# Altium schematic symbol library lib_protel_HC.SCHLIB: 494 symbols (part 4 of 4)
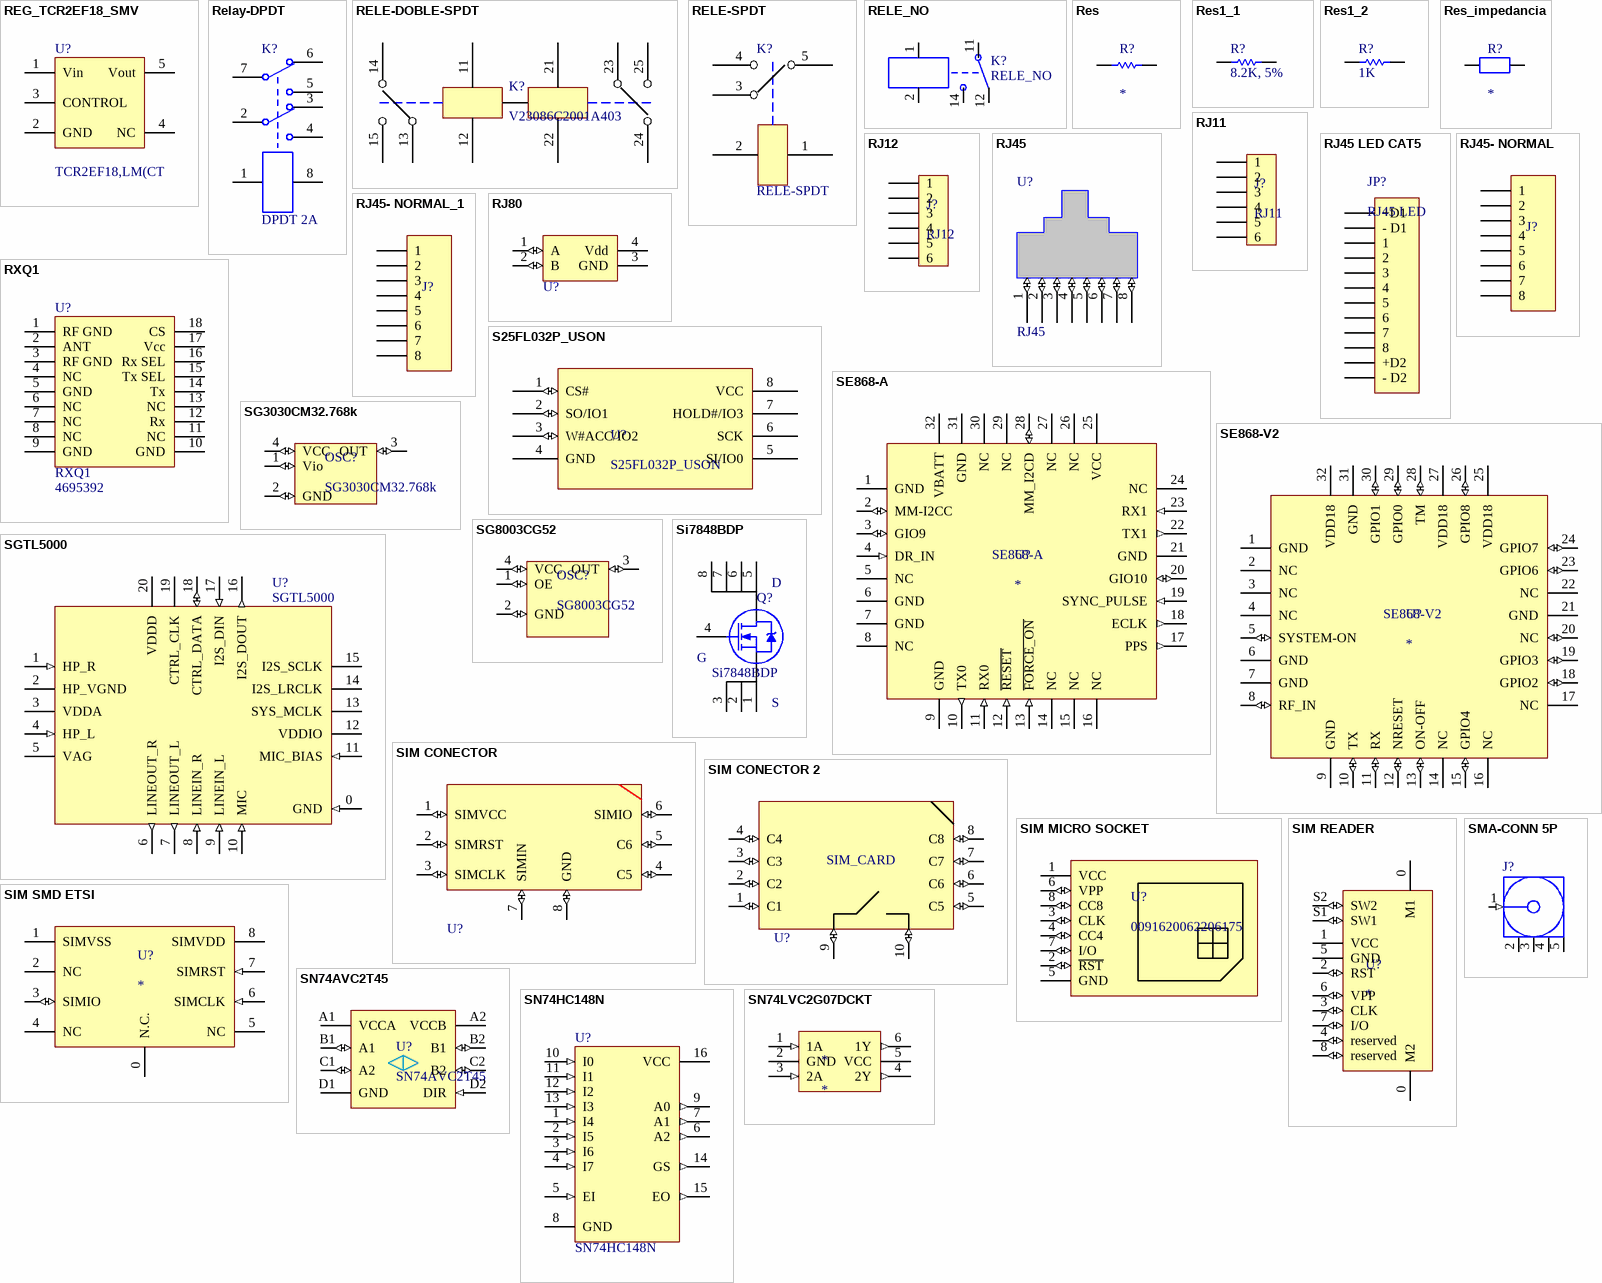
[diagram p24: symbols REG_TCR2EF18_SMV to SN74LVC2G07DCKT]

## SMA-CONN 5P
designator J?  (value not drawn)
SMA antenna connector 5 pin; ComponentLink1Description: *; ComponentLink1URL: *; CODIGO DIGIKEY: *; CODIGO FARNELL: *; CODIGO MOUSER: *; FABRICANTE: *; REF_FABRICANTE: *; DISTRIBUIDOR1: *; DISTRIBUIDOR2: *; ENCAPSULADO: *
pins: 1 Signal (in) "Signal Pin", 2 (power), 3 (power), 4 (power), 5 (power)

## SN74AVC2T45
designator U?
CODIGO FARNELL: *; CODIGO DIGIKEY: 296-17858-1-ND
pins: A1 VCCA, A2 VCCB, B1 A1 (io), B2 B1 (io), C1 A2 (io), C2 B2 (io), D1 GND, D2 DIR (in)

## SN74HC148N
designator U?
8-Line to 3-Line Priority Encoder; Manufacturer: TI; Manufacturer p/n: SN74HC148N; Distributor: Digikey; Case: DIP; 16 Leads; Row Spacing 7.62 mm; Pitch 2.54 mm; ComponentLink2URL: http://www-s.ti.com/sc/ds/sn74hc148.pdf; Distributor p/n: 296-8233-5-ND
footprint N016D (DIP; 16 Leads; Row Spacing 7.62 mm; Pitch 2.54 mm)
3D model N016 (DIP; 16 Leads; Row Spacing 7.62 mm; Pitch 2.54 mm)
pins: 1 I4 (in), 2 I5 (in), 3 I6 (in), 4 I7 (in), 5 EI (in), 6 A2 (out), 7 A1 (out), 8 GND (power), 9 A0 (out), 10 I0 (in), 11 I1 (in), 12 I2 (in), 13 I3 (in), 14 GS (out), 15 EO (out), 16 VCC (power)

## SN74LVC2G07DCKT
designator *
CODIGO FARNELL: *; PRECIO FARNELL: *
pins: 1 1A (in), 2 GND, 3 2A (in), 4 2Y (out), 5 VCC, 6 1Y (out)

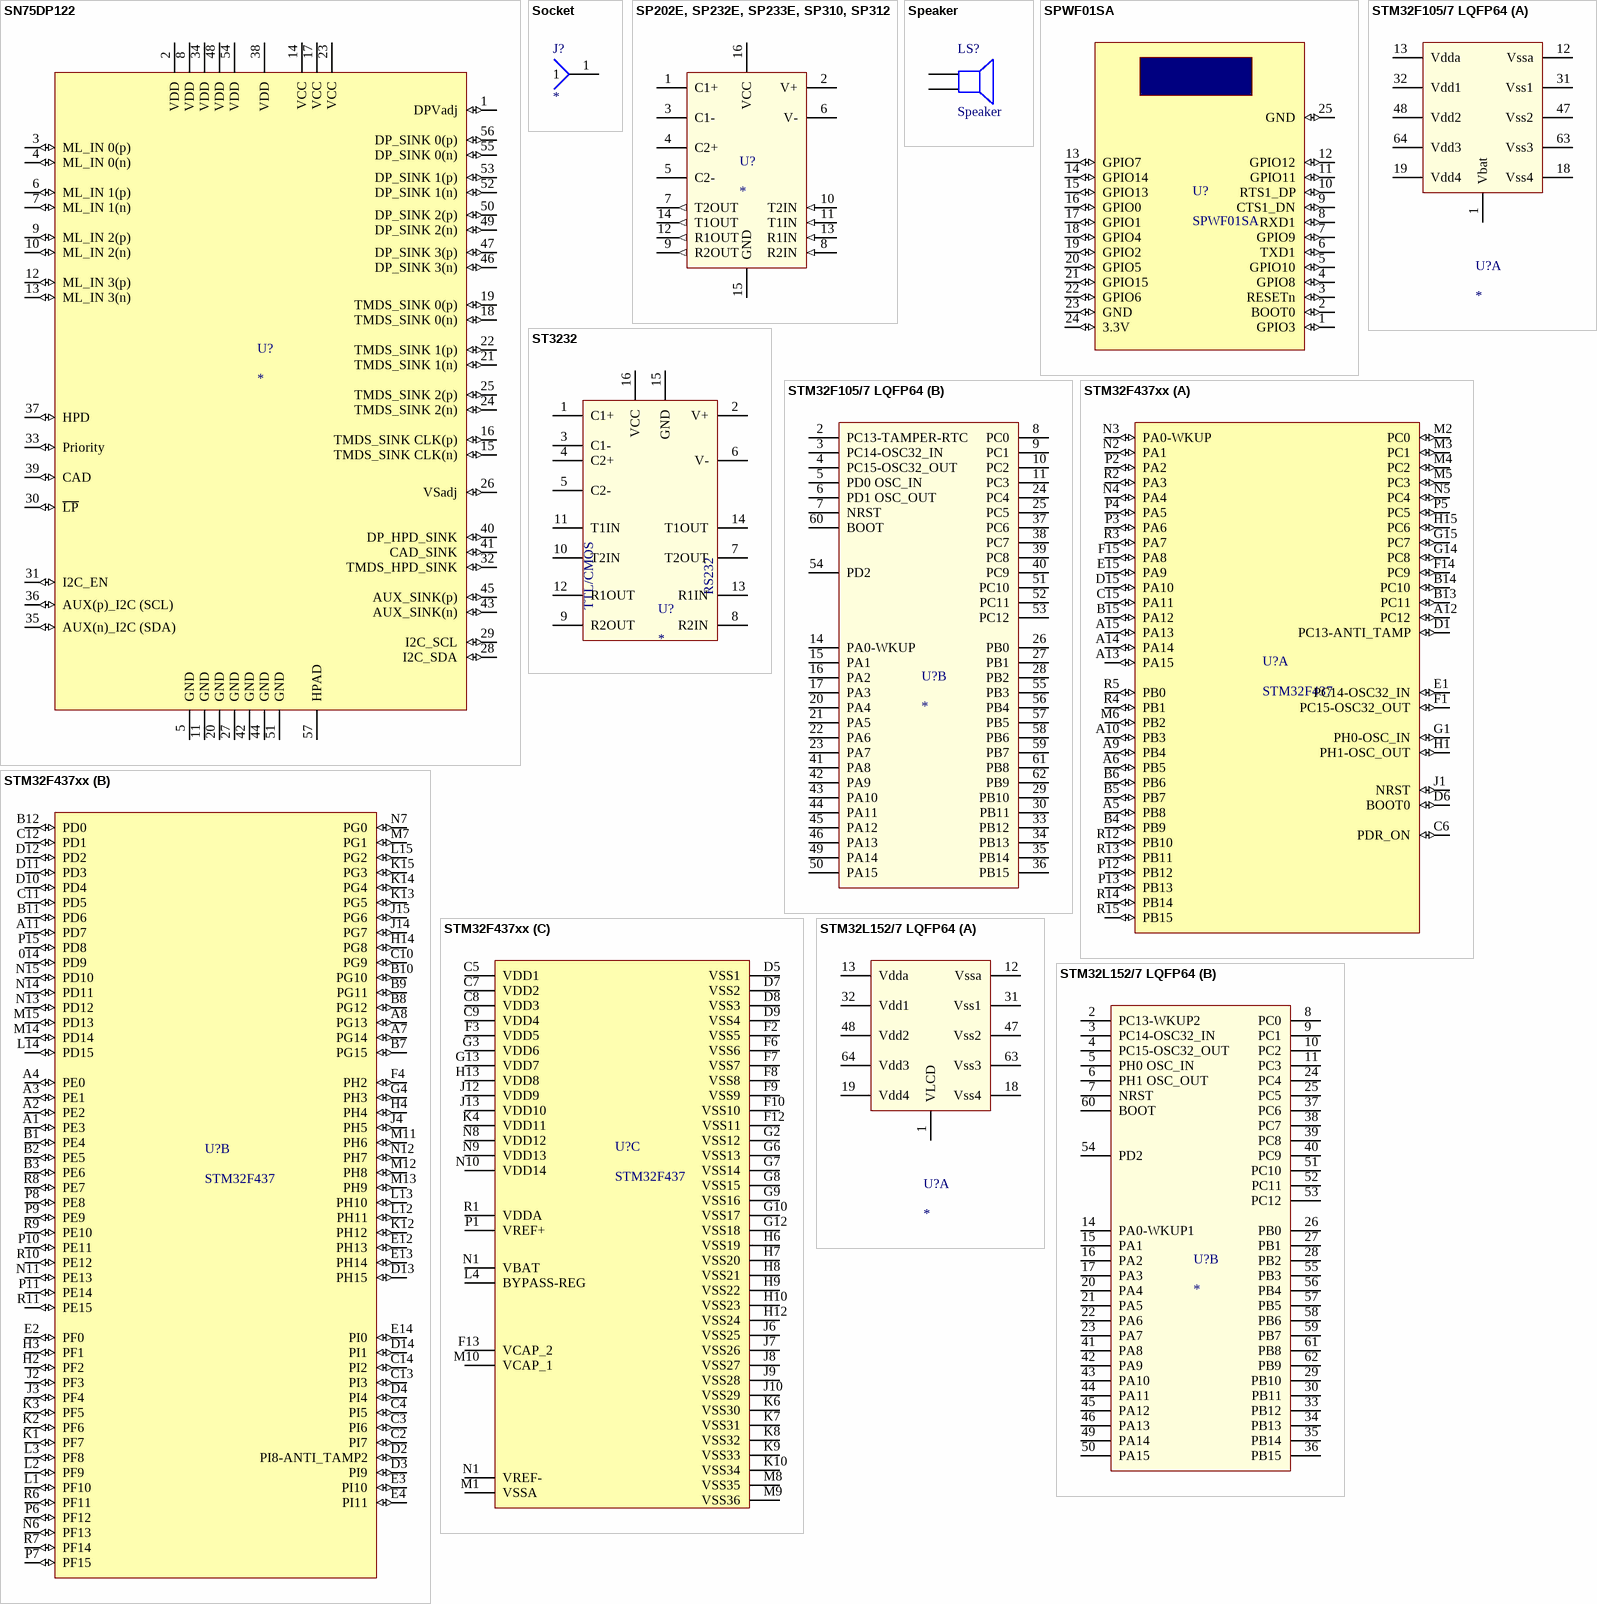
[diagram p17: symbols SN75DP122 to STM32L152/7 LQFP64]

## SN75DP122
designator U?
CODIGO DIGIKEY: *; CODIGO FARNELL: *; CODIGO MOUSER: *; CODIGO PRODUCTO: *; DISTRIBUIDOR 1: *; DISTRIBUIDOR 2: *
pins: 1 DPVadj (io), 2 VDD (power), 3 ML_IN 0(p) (io), 4 ML_IN 0(n) (io), 5 GND (power), 6 ML_IN 1(p) (io), 7 ML_IN 1(n) (io), 8 VDD (power), 9 ML_IN 2(p) (io), 10 ML_IN 2(n) (io), 11 GND (power), 12 ML_IN 3(p) (io), 13 ML_IN 3(n) (io), 14 VCC (power), 15 TMDS_SINK CLK(n) (io), 16 TMDS_SINK CLK(p) (io), 17 VCC (power), 18 TMDS_SINK 0(n) (io), 19 TMDS_SINK 0(p) (io), 20 GND (power), 21 TMDS_SINK 1(n) (io), 22 TMDS_SINK 1(p) (io), 23 VCC (power), 24 TMDS_SINK 2(n) (io), 25 TMDS_SINK 2(p) (io), 26 VSadj (io), 27 GND (power), 28 I2C_SDA (io), 29 I2C_SCL (io), 30 ~{LP} (io), 31 I2C_EN (io), 32 TMDS_HPD_SINK (io), 33 Priority (io), 34 VDD (power), 35 AUX(n)_I2C (SDA) (io), 36 AUX(p)_I2C (SCL) (io), 37 HPD (io), 38 VDD (power), 39 CAD (io), 40 DP_HPD_SINK (io), 41 CAD_SINK (io), 42 GND (power), 43 AUX_SINK(n) (io), 44 GND (power), 45 AUX_SINK(p) (io), 46 DP_SINK 3(n) (io), 47 DP_SINK 3(p) (io), 48 VDD (power), 49 DP_SINK 2(n) (io), 50 DP_SINK 2(p) (io), 51 GND (power), 52 DP_SINK 1(n) (io), 53 DP_SINK 1(p) (io), 54 VDD (power), 55 DP_SINK 0(n) (io), 56 DP_SINK 0(p) (io), 57 HPAD (power)

## Socket
designator J?
Socket; CODIGO DIGIKEY: *; CODIGO FARNELL: *; CODIGO MOUSER: *; FABRICANTE: *; REF_FABRICANTE: *; DISTTRIBUIDOR 1: *; DISTRIBUIDOR 2: *; ComponentLink1URL: *; ComponentLink1Description: *
pins: 1 (power)

## SP202E, SP232E, SP233E, SP310, SP312
designator U?
RS-232 Line Driver/Receiver; CODIGO FARNELL: *; CODIGO MOUSER: *; CODIGO DIGIKEY: *; FABRICANTE: *; REF_FABRICANTE: *; ENCAPSULADO: *; ComponentLink1Description: *; ComponentLink1URL: *; DISTRIBUIDOR 1: *; DISTRIBUIDOR 2: *
pins: 1 C1+ (power), 2 V+ (power), 3 C1- (power), 4 C2+ (power), 5 C2- (power), 6 V- (power), 7 T2OUT (out), 8 R2IN (in), 9 R2OUT (out), 10 T2IN (in), 11 T1IN (in), 12 R1OUT (out), 13 R1IN (in), 14 T1OUT (out), 15 GND (power), 16 VCC (power)

## Speaker
designator LS?
Loudspeaker; Published: 24-Mar-1999; LatestRevisionDate: 17-Jul-2002; LatestRevisionNote: Re-released for DXP Platform.; PackageReference: PIN2; Publisher: Altium Limited; CODIGO DIGIKEY: *; CODIGO FARNELL: *; CODIGO MOUSER: *; CODIGO FABRICANTE: *; POTENCIA: *; FABRICANTE: *; DISTRIBUIDOR 1: *; DISTRIBUIDOR 2: *
pins: 1, 2

## SPWF01SA
designator U?
CODIGO DIGIKEY: *; CODIGO FARNELL: *; DISTRIBUIDOR: *; PRECIO DIGIKEY: *; CODIGO MOUSER: *; FABRICANTE: *
pins: 1 GPIO3 (io), 2 BOOT0 (io), 3 RESETn (io), 4 GPIO8 (io), 5 GPIO10 (io), 6 TXD1 (io), 7 GPIO9 (io), 8 RXD1 (io), 9 CTS1_DN (io), 10 RTS1_DP (io), 11 GPIO11 (io), 12 GPIO12 (io), 13 GPIO7 (io), 14 GPIO14 (io), 15 GPIO13 (io), 16 GPIO0 (io), 17 GPIO1 (io), 18 GPIO4 (io), 19 GPIO2 (io), 20 GPIO5 (io), 21 GPIO15 (io), 22 GPIO6 (io), 23 GND (io), 24 3.3V (io), 25 GND (io)

## ST3232
designator U?
CODIGO DIGIKEY: *; CODIGO FARNELL: *; CODIGO MOUSER: *; REF_FABRICANTE: *; FABRICANTE: *; DISTRIBUIDOR1: *; DISTRIBUIDOR2: *
pins: 1 C1+, 2 V+, 3 C1-, 4 C2+, 5 C2-, 6 V-, 7 T2OUT, 8 R2IN, 9 R2OUT, 10 T2IN, 11 T1IN, 12 R1OUT, 13 R1IN, 14 T1OUT, 15 GND, 16 VCC
text: RS232; TTL/CMOS

## STM32F105/7 LQFP64
designator U?
CODIGO DIGIKEY: *; CODIGO FARNELL: *; CODIGO MOUSER: *; DISTRIBUIDOR1: *; DISTRIBUIDOR2: *; REF_FABRICANTE: *; FABRICANTE: *
footprint LQFP-64
part A pins: 1 Vbat, 12 Vssa, 13 Vdda, 18 Vss4, 19 Vdd4, 31 Vss1, 32 Vdd1, 47 Vss2, 48 Vdd2, 63 Vss3, 64 Vdd3
part B pins: 2 PC13-TAMPER-RTC, 3 PC14-OSC32_IN, 4 PC15-OSC32_OUT, 5 PD0 OSC_IN, 6 PD1 OSC_OUT, 7 NRST, 8 PC0, 9 PC1, 10 PC2, 11 PC3, 14 PA0-WKUP, 15 PA1, 16 PA2, 17 PA3, 20 PA4, 21 PA5, 22 PA6, 23 PA7, 24 PC4, 25 PC5, 26 PB0, 27 PB1, 28 PB2, 29 PB10, 30 PB11, 33 PB12, 34 PB13, 35 PB14, 36 PB15, 37 PC6, 38 PC7, 39 PC8, 40 PC9, 41 PA8, 42 PA9, 43 PA10, 44 PA11, 45 PA12, 46 PA13, 49 PA14, 50 PA15, 51 PC10, 52 PC11, 53 PC12, 54 PD2, 55 PB3, 56 PB4, 57 PB5, 58 PB6, 59 PB7, 60 BOOT, 61 PB8, 62 PB9

## STM32F437xx
designator U?, comment STM32F437
MICROCONTROLADOR ARM; CODIGO DIGIKEY: *; DISTRIBUIDOR: VENCO ELECTRONICA
part A pins: A5 PB8 (io), A6 PB5 (io), A9 PB4 (io), A10 PB3 (io), A12 PC12 (io), A13 PA15 (io), A14 PA14 (io), A15 PA13 (io), B4 PB9 (io), B5 PB7 (io), B6 PB6 (io), B13 PC11 (io), B14 PC10 (io), B15 PA12 (io), C6 PDR_ON (io), C15 PA11 (io), D1 PC13-ANTI_TAMP (io), D6 BOOT0 (io), D15 PA10 (io), E1 PC14-OSC32_IN (io), E15 PA9 (io), F1 PC15-OSC32_OUT (io), F14 PC9 (io), F15 PA8 (io), G1 PH0-OSC_IN (io), G14 PC8 (io), G15 PC7 (io), H1 PH1-OSC_OUT (io), H15 PC6 (io), J1 NRST (io), M2 PC0 (io), M3 PC1 (io), M4 PC2 (io), M5 PC3 (io), M6 PB2 (io), N2 PA1 (io), N3 PA0-WKUP (io), N4 PA4 (io), N5 PC4 (io), P2 PA2 (io), P3 PA6 (io), P4 PA5 (io), P5 PC5 (io), P12 PB12 (io), P13 PB13 (io), R2 PA3 (io), R3 PA7 (io), R4 PB1 (io), R5 PB0 (io), R12 PB10 (io), R13 PB11 (io), R14 PB14 (io), R15 PB15 (io)
part B pins: 014 PD9 (io), A1 PE3 (io), A2 PE2 (io), A3 PE1 (io), A4 PE0 (io), A7 PG14 (io), A8 PG13 (io), A11 PD7 (io), B1 PE4 (io), B2 PE5 (io), B3 PE6 (io), B7 PG15 (io), B8 PG12 (io), B9 PG11 (io), B10 PG10 (io), B11 PD6 (io), B12 PD0 (io), C2 PI7 (io), C3 PI6 (io), C4 PI5 (io), C10 PG9 (io), C11 PD5 (io), C12 PD1 (io), C13 PI3 (io), C14 PI2 (io), D2 PI8-ANTI_TAMP2 (io), D3 PI9 (io), D4 PI4 (io), D10 PD4 (io), D11 PD3 (io), D12 PD2 (io), D13 PH15 (io), D14 PI1 (io), E2 PF0 (io), E3 PI10 (io), E4 PI11 (io), E12 PH13 (io), E13 PH14 (io), E14 PI0 (io), F4 PH2 (io), G4 PH3 (io), H2 PF2 (io), H3 PF1 (io), H4 PH4 (io), H14 PG8 (io), J2 PF3 (io), J3 PF4 (io), J4 PH5 (io), J14 PG7 (io), J15 PG6 (io), K1 PF7 (io), K2 PF6 (io), K3 PF5 (io), K12 PH12 (io), K13 PG5 (io), K14 PG4 (io), K15 PG3 (io), L1 PF10 (io), L2 PF9 (io), L3 PF8 (io), L12 PH11 (io), L13 PH10 (io), L14 PD15 (io), L15 PG2 (io), M7 PG1 (io), M11 PH6 (io), M12 PH8 (io), M13 PH9 (io), M14 PD14 (io), M15 PD13 (io), N6 PF13 (io), N7 PG0 (io), N11 PE13 (io), N12 PH7 (io), N13 PD12 (io), N14 PD11 (io), N15 PD10 (io), P6 PF12 (io), P7 PF15 (io), P8 PE8 (io), P9 PE9 (io), P10 PE11 (io), P11 PE14 (io), P15 PD8 (io), R6 PF11 (io), R7 PF14 (io), R8 PE7 (io), R9 PE10 (io), R10 PE12 (io), R11 PE15 (io)
part C pins: C5 VDD1 (power), C7 VDD2 (power), C8 VDD3 (power), C9 VDD4 (power), D5 VSS1 (power), D7 VSS2 (power), D8 VSS3 (power), D9 VSS4 (power), F2 VSS5 (power), F3 VDD5 (power), F6 VSS6 (power), F7 VSS7 (power), F8 VSS8 (power), F9 VSS9 (power), F10 VSS10 (power), F12 VSS11 (power), F13 VCAP_2 (power), G2 VSS12 (power), G3 VDD6 (power), G6 VSS13 (power), G7 VSS14 (power), G8 VSS15 (power), G9 VSS16 (power), G10 VSS17 (power), G12 VSS18 (power), G13 VDD7 (power), H6 VSS19 (power), H7 VSS20 (power), H8 VSS21 (power), H9 VSS22 (power), H10 VSS23 (power), H12 VSS24 (power), H13 VDD8 (power), J6 VSS25 (power), J7 VSS26 (power), J8 VSS27 (power), J9 VSS28 (power), J10 VSS29 (power), J12 VDD9 (power), J13 VDD10 (power), K4 VDD11 (power), K6 VSS30 (power), K7 VSS31 (power), K8 VSS32 (power), K9 VSS33 (power), K10 VSS34 (power), L4 BYPASS-REG (power), M1 VSSA (power), M8 VSS35 (power), M9 VSS36 (power), M10 VCAP_1 (power), N1 VBAT (power), N1 VREF- (power), N8 VDD12 (power), N9 VDD13 (power), N10 VDD14 (power), P1 VREF+ (power), R1 VDDA (power)

## STM32L152/7 LQFP64
designator U?
CODIGO DIGIKEY: *; CODIGO FARNELL: *; CODIGO MOUSER: *; DISTRIBUIDOR1: *; DISTRIBUIDOR2: *; REF_FABRICANTE: *; FABRICANTE: *
footprint LQFP-64
part A pins: 1 VLCD, 12 Vssa, 13 Vdda, 18 Vss4, 19 Vdd4, 31 Vss1, 32 Vdd1, 47 Vss2, 48 Vdd2, 63 Vss3, 64 Vdd3
part B pins: 2 PC13-WKUP2, 3 PC14-OSC32_IN, 4 PC15-OSC32_OUT, 5 PH0 OSC_IN, 6 PH1 OSC_OUT, 7 NRST, 8 PC0, 9 PC1, 10 PC2, 11 PC3, 14 PA0-WKUP1, 15 PA1, 16 PA2, 17 PA3, 20 PA4, 21 PA5, 22 PA6, 23 PA7, 24 PC4, 25 PC5, 26 PB0, 27 PB1, 28 PB2, 29 PB10, 30 PB11, 33 PB12, 34 PB13, 35 PB14, 36 PB15, 37 PC6, 38 PC7, 39 PC8, 40 PC9, 41 PA8, 42 PA9, 43 PA10, 44 PA11, 45 PA12, 46 PA13, 49 PA14, 50 PA15, 51 PC10, 52 PC11, 53 PC12, 54 PD2, 55 PB3, 56 PB4, 57 PB5, 58 PB6, 59 PB7, 60 BOOT, 61 PB8, 62 PB9

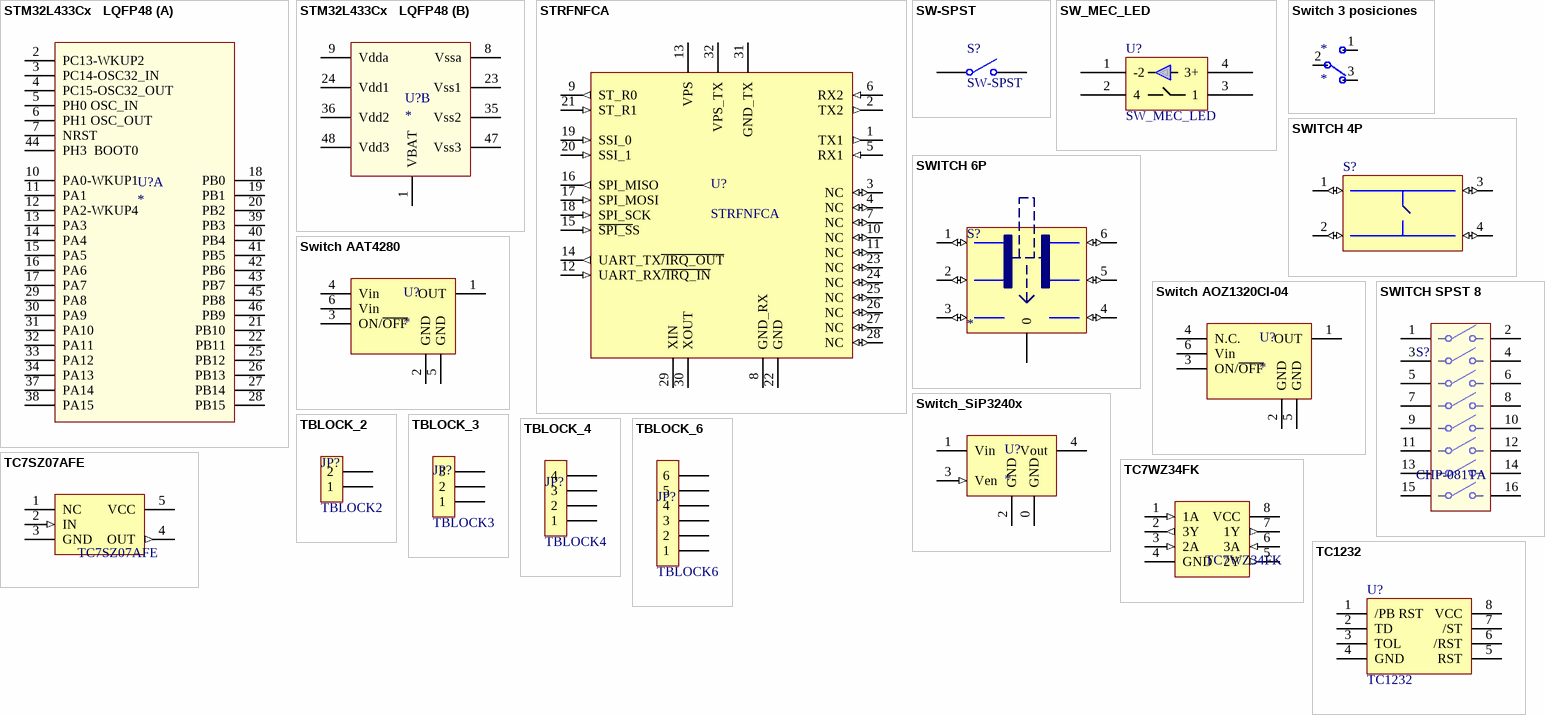
[diagram p18: symbols STM32L433Cx   LQFP48 to TC1232]

## STM32L433Cx   LQFP48
designator U?
Ultra-low-power ARM® Cortex®-M4 32-bit MCU+FPU, 100DMIPS,  up to 256KB Flash, 64KB SRAM
footprint LQFP-48
part A pins: 2 PC13-WKUP2, 3 PC14-OSC32_IN, 4 PC15-OSC32_OUT, 5 PH0 OSC_IN, 6 PH1 OSC_OUT, 7 NRST, 10 PA0-WKUP1, 11 PA1, 12 PA2-WKUP4, 13 PA3, 14 PA4, 15 PA5, 16 PA6, 17 PA7, 18 PB0, 19 PB1, 20 PB2, 21 PB10, 22 PB11, 25 PB12, 26 PB13, 27 PB14, 28 PB15, 29 PA8, 30 PA9, 31 PA10, 32 PA11, 33 PA12, 34 PA13, 37 PA14, 38 PA15, 39 PB3, 40 PB4, 41 PB5, 42 PB6, 43 PB7, 44 PH3  BOOT0, 45 PB8, 46 PB9
part B pins: 1 VBAT, 8 Vssa, 9 Vdda, 23 Vss1, 24 Vdd1, 35 Vss2, 36 Vdd2, 47 Vss3, 48 Vdd3

## STRFNFCA
designator U?
CODIGO DIGIKEY: *; CODIGO FABRICANTE: *
pins: 1 TX1 (out), 2 TX2 (out), 3 NC (io), 4 NC (io), 5 RX1 (in), 6 RX2 (in), 7 NC (io), 8 GND_RX (power), 9 ST_R0 (out), 10 NC (io), 11 NC (io), 12 UART_RX~{/IRQ_IN} (in), 13 VPS (power), 14 UART_TX~{/IRQ_OUT} (out), 15 ~{SPI_S}S (in), 16 SPI_MISO (out), 17 SPI_MOSI (in), 18 SPI_SCK (in), 19 SSI_0 (in), 20 SSI_1 (in), 21 ST_R1 (in), 22 GND (power), 23 NC (io), 24 NC (io), 25 NC (io), 26 NC (io), 27 NC (io), 28 NC (io), 29 XIN (hiz), 30 XOUT (hiz), 31 GND_TX (power), 32 VPS_TX (power)

## SW-SPST
designator S?
Single-Pole, Single-Throw Switch; Manufacturer: Generic Components; Published: 24-Mar-1999; Revision: July-2002: Re-released for DXP Platform.; Publisher: Altium Limited
footprint SPST-2
pins: 1 COMMON, 2 NO

## SW_MEC_LED
designator U?
pins: 1 -2, 2 4, 3 1, 4 3+

## Switch 3 posiciones
designator *
CODIGO FARNELL: *; PRECIO FARNELL: *
pins: 1, 2, 3

## SWITCH 4P
designator S?  (value not drawn)
switch 4P; CODIGO DIGIKEY: *; CODIGO FARNELL: *; CODIGO MOUSER: *; FABRICANTE: *; REF_FABRICANTE: *; DISTRIBUIDOR 1: *; DISTRIBUIDOR 2: *; ComponentLink1URL: *; ComponentLink1Description: *
pins: 1 (io), 2 (io), 3 (io), 4 (io)

## SWITCH 6P
designator S?
Switch 6P; FABRICANTE: *; CODIGO FARNELL: *; CODIGO DIGIKEY: *; CODIGO MOUSER: *; DISTRIBUIDOR 1: *; DISTRIBUIDOR 2: *; REF_FABRICANTE: *; ComponentLink1Description: *; ComponentLink1URL: *
pins: 0 (power), 1 (io), 2 (io), 3 (io), 4 (io), 5 (io), 6 (io)

## Switch AAT4280
designator U?
Switch P-Channel; CODIGO DIGIKEY: *; CODIGO MOUSER: *; CODIGO FARNELL: *; ComponentLink1Description: *; ComponentLink1URL: *; FABRICANTE: *; REF_FABRICANTE: *; DISTRIBUIDOR 1: *; DISTRIBUIDOR 2: *
pins: 1 OUT, 2 GND, 3 ON/~{OFF}, 4 Vin, 5 GND, 6 Vin

## Switch AOZ1320CI-04
designator U?
Switch P-Channel; CODIGO DIGIKEY: *; CODIGO MOUSER: *; CODIGO FARNELL: *; ComponentLink1Description: *; ComponentLink1URL: *; FABRICANTE: *; REF_FABRICANTE: *; DISTRIBUIDOR 1: *; DISTRIBUIDOR 2: *
pins: 1 OUT, 2 GND, 3 ON/~{OFF}, 4 N.C., 5 GND, 6 Vin

## SWITCH SPST 8
designator S?, comment CHP-081TA
Switch piano; FABRICANTE: Copal Electronics Inc.; Posiciones: 8; CODIGO DIGIKEY: 563-1019-1-ND; CODIGO FARNELL: *; CODIGO MOUSER: *; DISTRIBUIDOR 1: *; DISTRIBUIDOR 2: *; REF_FABRICANTE: CHP-081TA; ComponentLink1URL: *; ComponentLink1Description: *
footprint CHP-081TA
pins: 1, 2, 3, 4, 5, 6, 7, 8, 9, 10, 11, 12, 13, 14, 15, 16

## Switch_SiP3240x
designator U?
IC Load switch, 4TDFN; CODIGO DIGIKEY: *; CODIGO FARNELL: *; CODIGO MOUSER: *; FABRICANTE: *; REF_FABRICANTE: *; DISTRIBUIDOR 1: *; DISTRIBUIDOR 2: *; ComponentLink1URL: *; ComponentLink1Description: *
pins: 0 GND (power), 1 Vin (power), 2 GND (power), 3 Ven (in), 4 Vout (power)

## TBLOCK_2
designator JP?, comment value TBLOCK2  (hidden comment: conector 2P)
TERMINAL BLOCK 2 VIAS; CODIGO DIGIKEY: *
footprint TBLOCK_2 (TERMIANL BLOCK 2 VIAS)
pins: 1, 2

## TBLOCK_3
designator JP?, comment value TBLOCK3  (hidden comment: Conector 3)
TERMINAL BLOCK 3 VIAS; CODIGO DIGIKEY: *
footprint TBLOCK_3 (TERMINAL BLOCK 3 VIAS)
pins: 1, 2, 3

## TBLOCK_4
designator JP?, comment value TBLOCK4  (hidden comment: conector 4P)
TERMINAL BLOCK 4 VIAS; CODIGO DIGIKEY: *
footprint TBLOCK_4 (TERMINAL BLOCK 4 VIAS)
pins: 1, 2, 3, 4

## TBLOCK_6
designator JP?, comment value TBLOCK6  (hidden comment: Conecotor 6P)
TERMINAL BLOCK 6 VIAS; CODIGO FARNELL: *; CODIGO DIGIKEY: *
footprint TBLOCK_6 (TERMINAL BLOCK 6 VIAS)
pins: 1, 2, 3, 4, 5, 6

## TC7SZ07AFE
designator *
pins: 1 NC, 2 IN (in), 3 GND, 4 OUT (out), 5 VCC

## TC7WZ34FK
designator *
pins: 1 1A (in), 2 3Y (out), 3 2A (in), 4 GND, 5 2Y (out), 6 3A (in), 7 1Y (out), 8 VCC

## TC1232
designator U?
Microprocessor Monitor
footprint SOIC-8
pins: 1 /PB RST, 2 TD, 3 TOL, 4 GND, 5 RST, 6 /RST, 7 /ST, 8 VCC

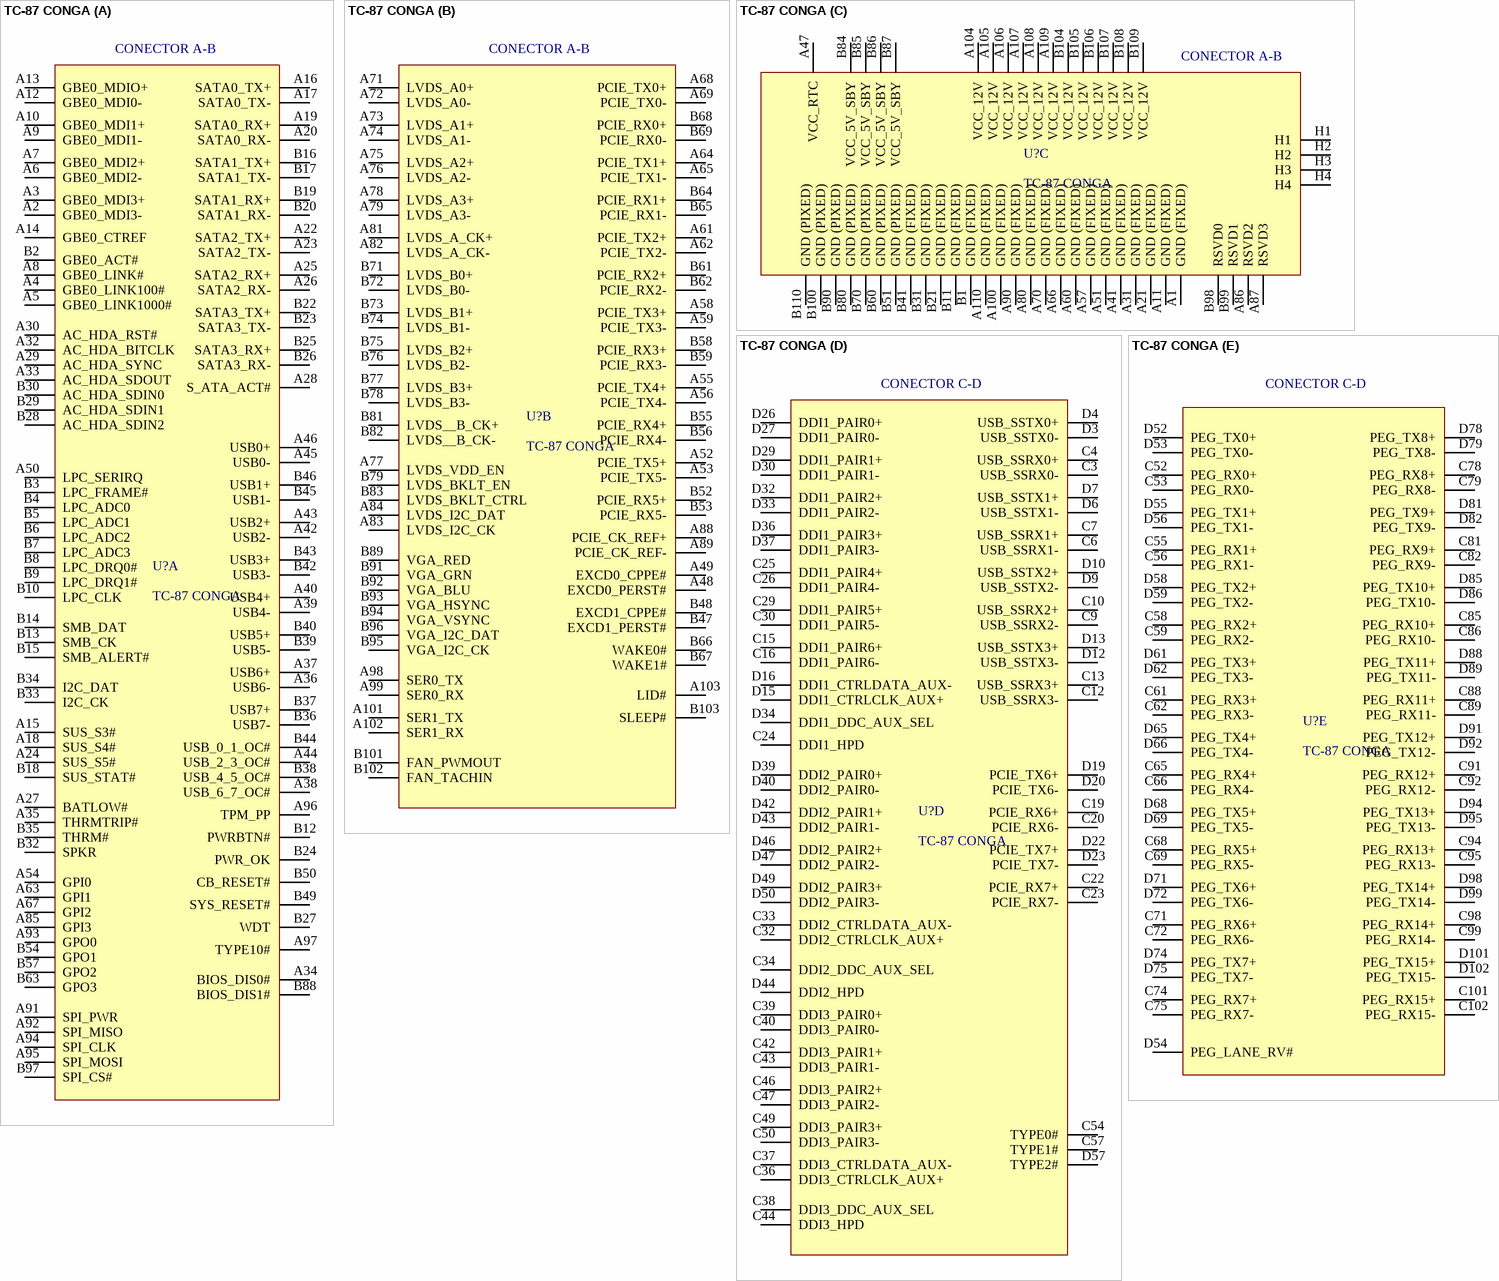
[diagram p19: symbol TC-87 CONGA]

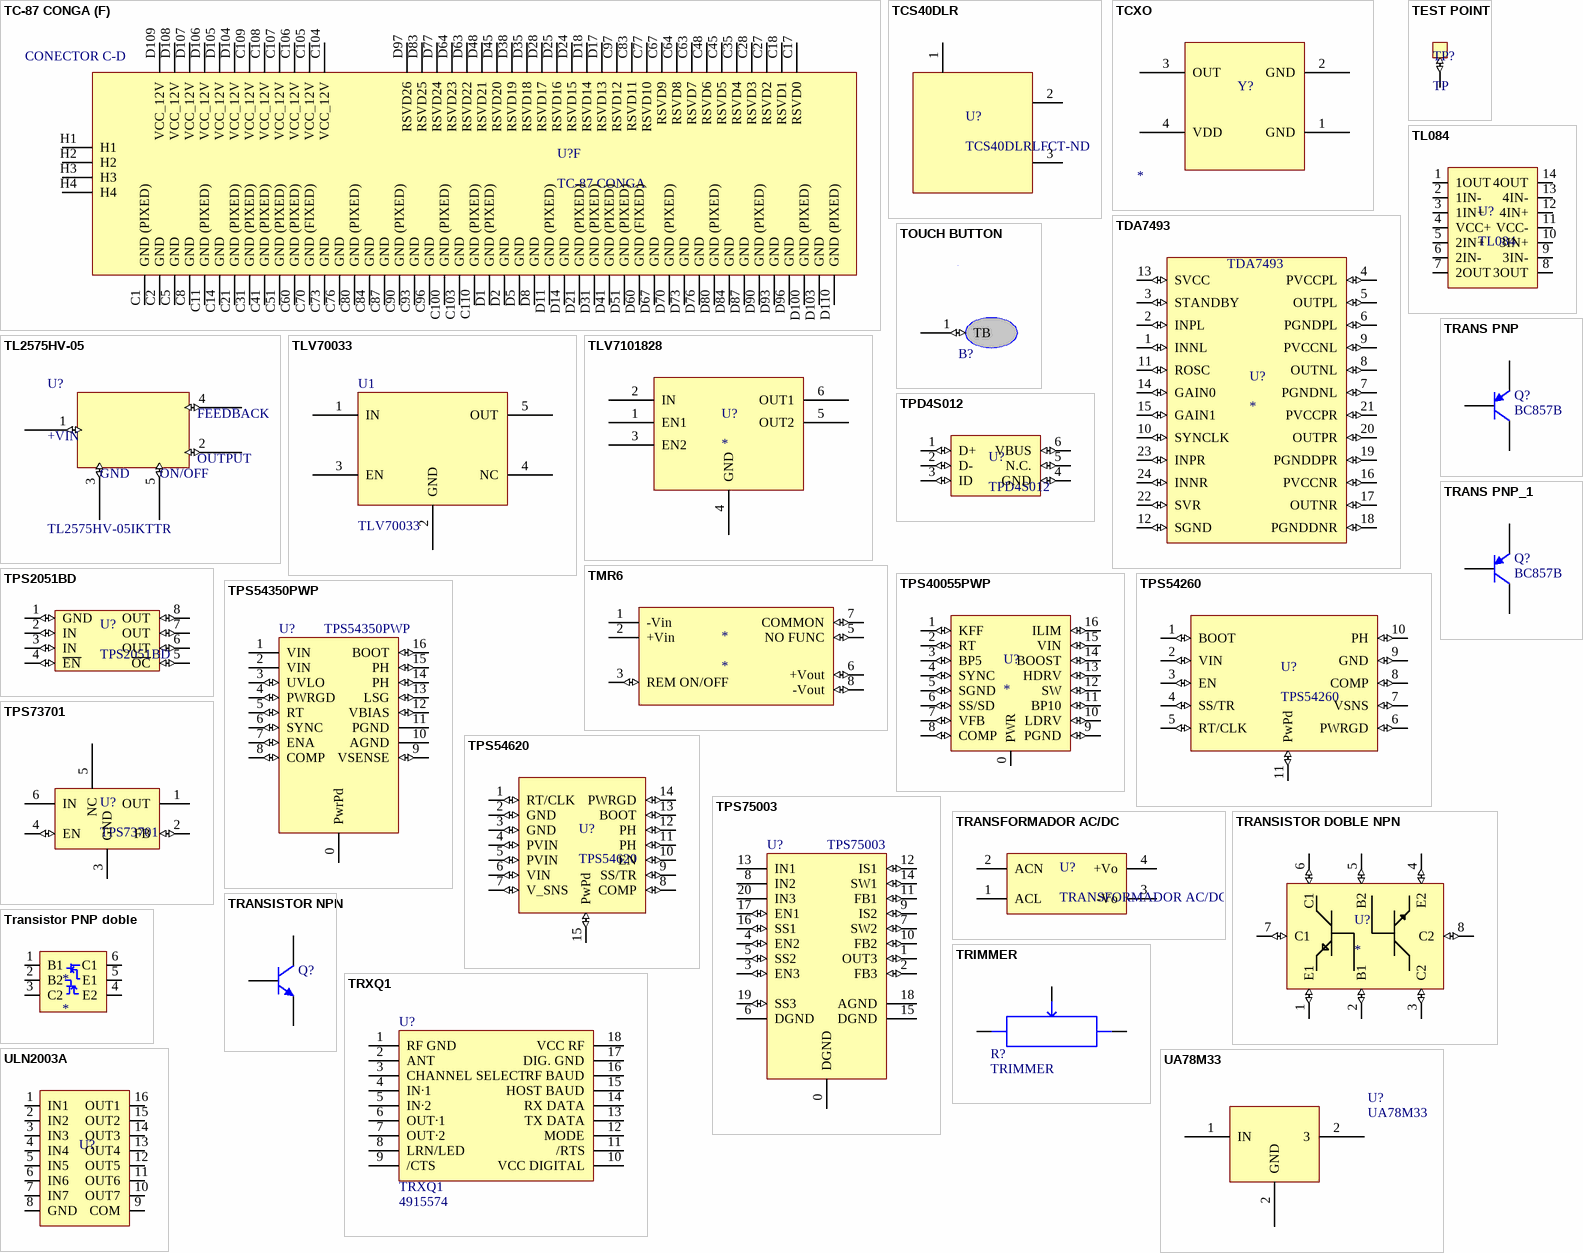
[diagram p20: symbols TC-87 CONGA to ULN2003A]

## TC-87 CONGA
designator U?
CODIGO_DIGIKEY: *; CODIGO_FARNELL: *; CODIGO_MOUSER: *; CODIGO_FABRICANTE: *; DISTRIBUIDOR 1: *; DISTRIBUIDOR 2: *; FABRICANTE: *
part A pins: A2 GBE0_MDI3-, A3 GBE0_MDI3+, A4 GBE0_LINK100#, A5 GBE0_LINK1000#, A6 GBE0_MDI2-, A7 GBE0_MDI2+, A8 GBE0_LINK#, A9 GBE0_MDI1-, A10 GBE0_MDI1+, A12 GBE0_MDI0-, A13 GBE0_MDIO+, A14 GBE0_CTREF, A15 SUS_S3#, A16 SATA0_TX+, A17 SATA0_TX-, A18 SUS_S4#, A19 SATA0_RX+, A20 SATA0_RX-, A22 SATA2_TX+, A23 SATA2_TX-, A24 SUS_S5#, A25 SATA2_RX+, A26 SATA2_RX-, A27 BATLOW#, A28 S_ATA_ACT#, A29 AC_HDA_SYNC, A30 AC_HDA_RST#, A32 AC_HDA_BITCLK, A33 AC_HDA_SDOUT, A34 BIOS_DIS0#, A35 THRMTRIP#, A36 USB6-, A37 USB6+, A38 USB_6_7_OC#, A39 USB4-, A40 USB4+, A42 USB2-, A43 USB2+, A44 USB_2_3_OC#, A45 USB0-, A46 USB0+, A50 LPC_SERIRQ, A54 GPI0, A63 GPI1, A67 GPI2, A85 GPI3, A91 SPI_PWR, A92 SPI_MISO, A93 GPO0, A94 SPI_CLK, A95 SPI_MOSI, A96 TPM_PP, A97 TYPE10#, B2 GBE0_ACT#, B3 LPC_FRAME#, B4 LPC_ADC0, B5 LPC_ADC1, B6 LPC_ADC2, B7 LPC_ADC3, B8 LPC_DRQ0#, B9 LPC_DRQ1#, B10 LPC_CLK, B12 PWRBTN#, B13 SMB_CK, B14 SMB_DAT, B15 SMB_ALERT#, B16 SATA1_TX+, B17 SATA1_TX-, B18 SUS_STAT#, B19 SATA1_RX+, B20 SATA1_RX-, B22 SATA3_TX+, B23 SATA3_TX-, B24 PWR_OK, B25 SATA3_RX+, B26 SATA3_RX-, B27 WDT, B28 AC_HDA_SDIN2, B29 AC_HDA_SDIN1, B30 AC_HDA_SDIN0, B32 SPKR, B33 I2C_CK, B34 I2C_DAT, B35 THRM#, B36 USB7-, B37 USB7+, B38 USB_4_5_OC#, B39 USB5-, B40 USB5+, B42 USB3-, B43 USB3+, B44 USB_0_1_OC#, B45 USB1-, B46 USB1+, B49 SYS_RESET#, B50 CB_RESET#, B54 GPO1, B57 GPO2, B63 GPO3, B88 BIOS_DIS1#, B97 SPI_CS#
part B pins: A48 EXCD0_PERST#, A49 EXCD0_CPPE#, A52 PCIE_TX5+, A53 PCIE_TX5-, A55 PCIE_TX4+, A56 PCIE_TX4-, A58 PCIE_TX3+, A59 PCIE_TX3-, A61 PCIE_TX2+, A62 PCIE_TX2-, A64 PCIE_TX1+, A65 PCIE_TX1-, A68 PCIE_TX0+, A69 PCIE_TX0-, A71 LVDS_A0+, A72 LVDS_A0-, A73 LVDS_A1+, A74 LVDS_A1-, A75 LVDS_A2+, A76 LVDS_A2-, A77 LVDS_VDD_EN, A78 LVDS_A3+, A79 LVDS_A3-, A81 LVDS_A_CK+, A82 LVDS_A_CK-, A83 LVDS_I2C_CK, A84 LVDS_I2C_DAT, A88 PCIE_CK_REF+, A89 PCIE_CK_REF-, A98 SER0_TX, A99 SER0_RX, A101 SER1_TX, A102 SER1_RX, A103 LID#, B47 EXCD1_PERST#, B48 EXCD1_CPPE#, B52 PCIE_RX5+, B53 PCIE_RX5-, B55 PCIE_RX4+, B56 PCIE_RX4-, B58 PCIE_RX3+, B59 PCIE_RX3-, B61 PCIE_RX2+, B62 PCIE_RX2-, B64 PCIE_RX1+, B65 PCIE_RX1-, B66 WAKE0#, B67 WAKE1#, B68 PCIE_RX0+, B69 PCIE_RX0-, B71 LVDS_B0+, B72 LVDS_B0-, B73 LVDS_B1+, B74 LVDS_B1-, B75 LVDS_B2+, B76 LVDS_B2-, B77 LVDS_B3+, B78 LVDS_B3-, B79 LVDS_BKLT_EN, B81 LVDS__B_CK+, B82 LVDS__B_CK-, B83 LVDS_BKLT_CTRL, B89 VGA_RED, B91 VGA_GRN, B92 VGA_BLU, B93 VGA_HSYNC, B94 VGA_VSYNC, B95 VGA_I2C_CK, B96 VGA_I2C_DAT, B101 FAN_PWMOUT, B102 FAN_TACHIN, B103 SLEEP#
part C pins: A1 GND (FIXED), A11 GND (FIXED), A21 GND (FIXED), A31 GND (FIXED), A41 GND (FIXED), A47 VCC_RTC, A51 GND (FIXED), A57 GND (FIXED), A60 GND (FIXED), A66 GND (FIXED), A70 GND (FIXED), A80 GND (FIXED), A86 RSVD2, A87 RSVD3, A90 GND (FIXED), A100 GND (FIXED), A104 VCC_12V, A105 VCC_12V, A106 VCC_12V, A107 VCC_12V, A108 VCC_12V, A109 VCC_12V, A110 GND (FIXED), B1 GND (FIXED), B11 GND (FIXED), B21 GND (FIXED), B31 GND (FIXED), B41 GND (FIXED), B51 GND (PIXED), B60 GND (PIXED), B70 GND (PIXED), B80 GND (PIXED), B84 VCC_5V_SBY, B85 VCC_5V_SBY, B86 VCC_5V_SBY, B87 VCC_5V_SBY, B90 GND (PIXED), B98 RSVD0, B99 RSVD1, B100 GND (PIXED), B104 VCC_12V, B105 VCC_12V, B106 VCC_12V, B107 VCC_12V, B108 VCC_12V, B109 VCC_12V, B110 GND (PIXED), H1, H2, H3, H4
part D pins: C3 USB_SSRX0-, C4 USB_SSRX0+, C6 USB_SSRX1-, C7 USB_SSRX1+, C9 USB_SSRX2-, C10 USB_SSRX2+, C12 USB_SSRX3-, C13 USB_SSRX3+, C15 DDI1_PAIR6+, C16 DDI1_PAIR6-, C19 PCIE_RX6+, C20 PCIE_RX6-, C22 PCIE_RX7+, C23 PCIE_RX7-, C24 DDI1_HPD, C25 DDI1_PAIR4+, C26 DDI1_PAIR4-, C29 DDI1_PAIR5+, C30 DDI1_PAIR5-, C32 DDI2_CTRLCLK_AUX+, C33 DDI2_CTRLDATA_AUX-, C34 DDI2_DDC_AUX_SEL, C36 DDI3_CTRLCLK_AUX+, C37 DDI3_CTRLDATA_AUX-, C38 DDI3_DDC_AUX_SEL, C39 DDI3_PAIR0+, C40 DDI3_PAIR0-, C42 DDI3_PAIR1+, C43 DDI3_PAIR1-, C44 DDI3_HPD, C46 DDI3_PAIR2+, C47 DDI3_PAIR2-, C49 DDI3_PAIR3+, C50 DDI3_PAIR3-, C54 TYPE0#, C57 TYPE1#, D3 USB_SSTX0-, D4 USB_SSTX0+, D6 USB_SSTX1-, D7 USB_SSTX1+, D9 USB_SSTX2-, D10 USB_SSTX2+, D12 USB_SSTX3-, D13 USB_SSTX3+, D15 DDI1_CTRLCLK_AUX+, D16 DDI1_CTRLDATA_AUX-, D19 PCIE_TX6+, D20 PCIE_TX6-, D22 PCIE_TX7+, D23 PCIE_TX7-, D26 DDI1_PAIR0+, D27 DDI1_PAIR0-, D29 DDI1_PAIR1+, D30 DDI1_PAIR1-, D32 DDI1_PAIR2+, D33 DDI1_PAIR2-, D34 DDI1_DDC_AUX_SEL, D36 DDI1_PAIR3+, D37 DDI1_PAIR3-, D39 DDI2_PAIR0+, D40 DDI2_PAIR0-, D42 DDI2_PAIR1+, D43 DDI2_PAIR1-, D44 DDI2_HPD, D46 DDI2_PAIR2+, D47 DDI2_PAIR2-, D49 DDI2_PAIR3+, D50 DDI2_PAIR3-, D57 TYPE2#
part E pins: C52 PEG_RX0+, C53 PEG_RX0-, C55 PEG_RX1+, C56 PEG_RX1-, C58 PEG_RX2+, C59 PEG_RX2-, C61 PEG_RX3+, C62 PEG_RX3-, C65 PEG_RX4+, C66 PEG_RX4-, C68 PEG_RX5+, C69 PEG_RX5-, C71 PEG_RX6+, C72 PEG_RX6-, C74 PEG_RX7+, C75 PEG_RX7-, C78 PEG_RX8+, C79 PEG_RX8-, C81 PEG_RX9+, C82 PEG_RX9-, C85 PEG_RX10+, C86 PEG_RX10-, C88 PEG_RX11+, C89 PEG_RX11-, C91 PEG_RX12+, C92 PEG_RX12-, C94 PEG_RX13+, C95 PEG_RX13-, C98 PEG_RX14+, C99 PEG_RX14-, C101 PEG_RX15+, C102 PEG_RX15-, D52 PEG_TX0+, D53 PEG_TX0-, D54 PEG_LANE_RV#, D55 PEG_TX1+, D56 PEG_TX1-, D58 PEG_TX2+, D59 PEG_TX2-, D61 PEG_TX3+, D62 PEG_TX3-, D65 PEG_TX4+, D66 PEG_TX4-, D68 PEG_TX5+, D69 PEG_TX5-, D71 PEG_TX6+, D72 PEG_TX6-, D74 PEG_TX7+, D75 PEG_TX7-, D78 PEG_TX8+, D79 PEG_TX8-, D81 PEG_TX9+, D82 PEG_TX9-, D85 PEG_TX10+, D86 PEG_TX10-, D88 PEG_TX11+, D89 PEG_TX11-, D91 PEG_TX12+, D92 PEG_TX12-, D94 PEG_TX13+, D95 PEG_TX13-, D98 PEG_TX14+, D99 PEG_TX14-, D101 PEG_TX15+, D102 PEG_TX15-
part F pins: C1 GND (PIXED), C2 GND, C5 GND, C8 GND, C11 GND (PIXED), C14 GND, C17 RSVD0, C18 RSVD1, C21 GND (PIXED), C27 RSVD2, C28 RSVD3, C31 GND (PIXED), C35 RSVD4, C41 GND (PIXED), C45 RSVD5, C48 RSVD6, C51 GND (PIXED), C60 GND (PIXED), C63 RSVD7, C64 RSVD8, C67 RSVD9, C70 GND (FIXED), C73 GND, C76 GND, C77 RSVD10, C80 GND (PIXED), C83 RSVD11, C84 GND, C87 GND, C90 GND (PIXED), C93 GND, C96 GND, C97 RSVD12, C100 GND (PIXED), C103 GND, C104 VCC_12V, C105 VCC_12V, C106 VCC_12V, C107 VCC_12V, C108 VCC_12V, C109 VCC_12V, C110 GND (PIXED), D1 GND (PIXED), D2 GND, D5 GND, D8 GND, D11 GND (PIXED), D14 GND, D17 RSVD13, D18 RSVD14, D21 GND (PIXED), D24 RSVD15, D25 RSVD16, D28 RSVD17, D31 GND (PIXED), D35 RSVD18, D38 RSVD19, D41 GND (PIXED), D45 RSVD20, D48 RSVD21, D51 GND (PIXED), D60 GND (FIXED), D63 RSVD22, D64 RSVD23, D67 GND, D70 GND (PIXED), D73 GND, D76 GND, D77 RSVD24, D80 GND (PIXED), D83 RSVD25, D84 GND, D87 GND, D90 GND (PIXED), D93 GND, D96 GND, D97 RSVD26, D100 GND (PIXED), D103 GND, D104 VCC_12V, D105 VCC_12V, D106 VCC_12V, D107 VCC_12V, D108 VCC_12V, D109 VCC_12V, D110 GND (PIXED), H1, H2, H3, H4
part A text: CONECTOR A-B
part B text: CONECTOR A-B
part C text: CONECTOR A-B
part D text: CONECTOR C-D
part E text: CONECTOR C-D
part F text: CONECTOR C-D

## TCS40DLR
designator U?, comment TCS40DLRLFCT-ND
Digital Output Magnetic Sensor; CODIGO_DIGIKEY: TCS40DLRLFCT-ND
footprint SOT23F - TCS40DLR (SON3-P-0203-1.90S)
pins: 1 VCC, 2 VOUT, 3 GND

## TCXO
designator Y?
CODIGO FARNELL: *; CODIGO DIGIKEY: *; CODIGO MOUSER: *; FABRICANTE: *; REF_FABRICANTE: *; DISTRIBUIDOR 1: *; DISTRIBUIDOR 2: *; ComponentLink1URL: *; Valor: *
pins: 1 GND, 2 GND, 3 OUT, 4 VDD

## TDA7493
designator U?
CODIGO DIGIKEY: *; CODIGO FARNELL: *; CODIGO MOUSER: *; FABRICANTE: *; CODIGO FABRICANTE: *; DISTRIBUIDOR 1: *; DISTRIBUIDOR 2: *; FOOTPRINT: *
pins: 1 INNL (io), 2 INPL (io), 3 STANDBY (io), 4 PVCCPL (io), 5 OUTPL (io), 6 PGNDPL (io), 7 PGNDNL (io), 8 OUTNL (io), 9 PVCCNL (io), 10 SYNCLK (io), 11 ROSC (io), 12 SGND (io), 13 SVCC (io), 14 GAIN0 (io), 15 GAIN1 (io), 16 PVCCNR (io), 17 OUTNR (io), 18 PGNDDNR (io), 19 PGNDDPR (io), 20 OUTPR (io), 21 PVCCPR (io), 22 SVR (io), 23 INPR (io), 24 INNR (io)

## TEST POINT
designator TP?, comment TP
footprint TEST POINT
pins: 1 TP (io)

## TL084
designator U?
CODIGO FARNELL: *; PRECIO FARNELL: *
pins: 1 1OUT, 2 1IN-, 3 1IN+, 4 VCC+, 5 2IN+, 6 2IN-, 7 2OUT, 8 3OUT, 9 3IN-, 10 3IN+, 11 VCC-, 12 4IN+, 13 4IN-, 14 4OUT

## TL2575HV-05
designator U?, comment TL2575HV-05IKTTR
pins: 1 (io), 2 (io), 3 (io), 4 (io), 5 (io)
text: FEEDBACK; +VIN; OUTPUT; GND; ON/OFF

## TLV70033
designator U1
FABRICANTE: TEXAS INSTRUMENTS; REFERNCIA FABRICANTE: TLV70033DSET; CODIGO DIGIKEY: 296-25215-1-ND; CODIGO MOUSER: *; CODIGO FARNELL: *
footprint TLV7101828 (Regulador doble salida)
pins: 1 IN, 2 GND, 3 EN, 4 NC, 5 OUT

## TLV7101828
designator U?
TLV7101828; CODIGO DIGIKEY: *; CODIGO MOUSER: *; CODIGO FARNELL: *; FABRICANTE: *; REFERNCIA FABRICANTE: *
pins: 1 EN1, 2 IN, 3 EN2, 4 GND, 5 OUT2, 6 OUT1

## TMR6
designator *
pins: 1 -Vin (power), 2 +Vin (power), 3 REM ON/OFF (io), 5 NO FUNC (io), 6 +Vout (io), 7 COMMON (io), 8 -Vout (io)

## TOUCH BUTTON
designator B?  (value not drawn)
pins: 1 TB (io)

## TPD4S012
designator U?
DIGIKEY REF: *
pins: 1 D+ (io), 2 D- (io), 3 ID (io), 4 GND (io), 5 N.C. (io), 6 VBUS (io)

## TPS2051BD
designator U?
DIGIKEY REF: *
pins: 1 GND (io), 2 IN (io), 3 IN (io), 4 ~{EN} (io), 5 ~{OC} (io), 6 OUT (io), 7 OUT (io), 8 OUT (io)

## TPS40055PWP
designator U?
FABRICANTE: TEXAS INSTRUMENTS; DISTRIBUIDOR: ARROW IBERIA
pins: 0 PWR (power), 1 KFF (io), 2 RT (io), 3 BP5 (io), 4 SYNC (io), 5 SGND (io), 6 SS/SD (io), 7 VFB (io), 8 COMP (io), 9 PGND (io), 10 LDRV (io), 11 BP10 (io), 12 SW (io), 13 HDRV (io), 14 BOOST (io), 15 VIN (io), 16 ILIM (io)

## TPS54260
designator U?
CODIGO DIGIKEY: *; CODIGO FARNELL: *; CODIGO MOUSER: *; REF_FABRICANTE: *; FABRICANTE: *; DISTRIBUIDOR1: *; DISTRIBUIDOR2: *; ComponentLink1Description: *; ComponentLink1URL: *
pins: 1 BOOT (io), 2 VIN (io), 3 EN (io), 4 SS/TR (io), 5 RT/CLK (io), 6 PWRGD (io), 7 VSNS (io), 8 COMP (io), 9 GND (io), 10 PH (io), 11 PwPd (io)

## TPS54350PWP
designator U?
FABRICANTE: TEXAS INSTRUMENTS; DISTRIBUIDOR: ARROW IBERIA
pins: 0 PwrPd (power), 1 VIN (power), 2 VIN (power), 3 UVLO (io), 4 PWRGD (io), 5 RT (io), 6 SYNC (io), 7 ENA (io), 8 COMP (io), 9 VSENSE (io), 10 AGND (power), 11 PGND (power), 12 VBIAS (io), 13 LSG (io), 14 PH (io), 15 PH (io), 16 BOOT (io)

## TPS54620
designator U?
7WBD3306; CODIGO FARNELL: *; CODIGO MOUSER: *; DISTRIBUIDOR 1: *; DISTRIBUIDOR 2: *
pins: 1 RT/CLK (io), 2 GND (io), 3 GND (io), 4 PVIN (io), 5 PVIN (io), 6 VIN (io), 7 V_SNS (io), 8 COMP (io), 9 SS/TR (io), 10 EN (io), 11 PH (io), 12 PH (io), 13 BOOT (io), 14 PWRGD (io), 15 PwPd (io)

## TPS73701
designator U?
FABRICANTE: TI; CODIGO DIGIKEY: *; I salida: *; V salida: *; V entrada: *
pins: 1 OUT (power), 2 FB (io), 3 GND (power), 4 EN (io), 5 NC, 6 IN (power)

## TPS75003
designator U?
FABRICANTE: TEXAS INSTRUMENTS; DISTRIBUIDOR: ARROW IBERIA
pins: 0 DGND (power), 1 OUT3 (io), 2 FB3 (io), 3 EN3 (io), 4 EN2 (io), 5 SS2 (io), 6 DGND (power), 7 SW2 (io), 8 IN2 (power), 9 IS2 (io), 10 FB2 (io), 11 FB1 (io), 12 IS1 (io), 13 IN1 (power), 14 SW1 (io), 15 DGND (power), 16 SS1 (io), 17 EN1 (io), 18 AGND (power), 19 SS3 (io), 20 IN3 (power)

## TRANS PNP
designator Q?, comment BC857B
PNP General Purpose Amplifier; Manufacturer: Generic Components; Revision 1: 11-July-2000: SIM Model Added.; Revision 2: July-2002: Re-released for DXP Platform.; Class I: Discrete; Class II: BJT - Low Power; PRECIO: 0.106; Published: 8-Jun-2000; Package Reference: TO-92A; Publisher: Altium Limited; FARNELL: 1081246
simulation model 2N3906 (PNP)
signal-integrity model 2N3906
footprint SOT23-BC857B
pins: 1 E, 2 B, 3 C

## TRANS PNP_1
designator Q?, comment BC857B
PNP General Purpose Amplifier; Manufacturer: Generic Components; Revision 1: 11-July-2000: SIM Model Added.; Revision 2: July-2002: Re-released for DXP Platform.; Class I: Discrete; Class II: BJT - Low Power; PRECIO: 0.106; Published: 8-Jun-2000; Package Reference: TO-92A; Publisher: Altium Limited; FARNELL: 1081246
simulation model 2N3906 (PNP)
signal-integrity model 2N3906
footprint SOT23-BC857B
pins: 1 E, 2 B, 3 C

## TRANSFORMADOR AC/DC
designator U?
footprint TRANSFORMADOR AC/DC (Transformador ECL10US10-P de XP Power)
pins: 1 ACL (power), 2 ACN (power), 3 -Vo (power), 4 +Vo (power)

## TRANSISTOR DOBLE NPN
designator U?
CODIGO FABRICANTE: *; CODIGO DIGIKEY: *
pins: 1 E1 (io), 2 B1 (io), 3 C2 (io), 4 E2 (io), 5 B2 (io), 6 C1 (io), 7 C1 (io), 8 C2 (io)

## TRANSISTOR NPN
designator Q?  (value not drawn)
NPN General Purpose Amplifier; CODIGO FARNELL: *; CODIGO DIGIKEY: *; CODIGO MOUSER: *; REF_FABRICANTE: *; FABRICANTE: *; DISTRIBUIDOR 1: *; DISTRIBUIDOR 2: *; ComponentLink1Description: *; ComponentLink1URL: *; Ice (max): *; Vsat @ Ib, Ic: *; Vce (max): *; hFE (min) @ Ic, Vce: *
pins: 1 B, 2 E, 3 C

## Transistor PNP doble
designator *
PMP5201V; PRECIO FARNELL: *
pins: 1 B1, 2 B2, 3 C2, 4 E2, 5 E1, 6 C1

## TRIMMER
designator R?
Timmer 10mm, 500mW, horizontal
footprint Timmer 10mm, 500mW
pins: 1 VCC, 2 VCC, 3 VCC

## TRXQ1
designator U?  REF FARNELL: 4915574
footprint RXQ1 (MODULO RF RXQ1 100 mil)
pins: 1 RF GND, 2 ANT, 3 CHANNEL SELECT, 4 IN·1, 5 IN·2, 6 OUT·1, 7 OUT·2, 8 LRN/LED, 9 /CTS, 10 VCC DIGITAL, 11 /RTS, 12 MODE, 13 TX DATA, 14 RX DATA, 15 HOST BAUD, 16 RF BAUD, 17 DIG. GND, 18 VCC RF

## UA78M33
designator U?
pins: 1 IN, 2 GND, 2 3, 4 GND (io) hidden

## ULN2003A
designator U?  (value not drawn)
CODIGO FARNELL: *; PRECIO FARNELL: *
pins: 1 IN1, 2 IN2, 3 IN3, 4 IN4, 5 IN5, 6 IN6, 7 IN7, 8 GND, 9 COM, 10 OUT7, 11 OUT6, 12 OUT5, 13 OUT4, 14 OUT3, 15 OUT2, 16 OUT1

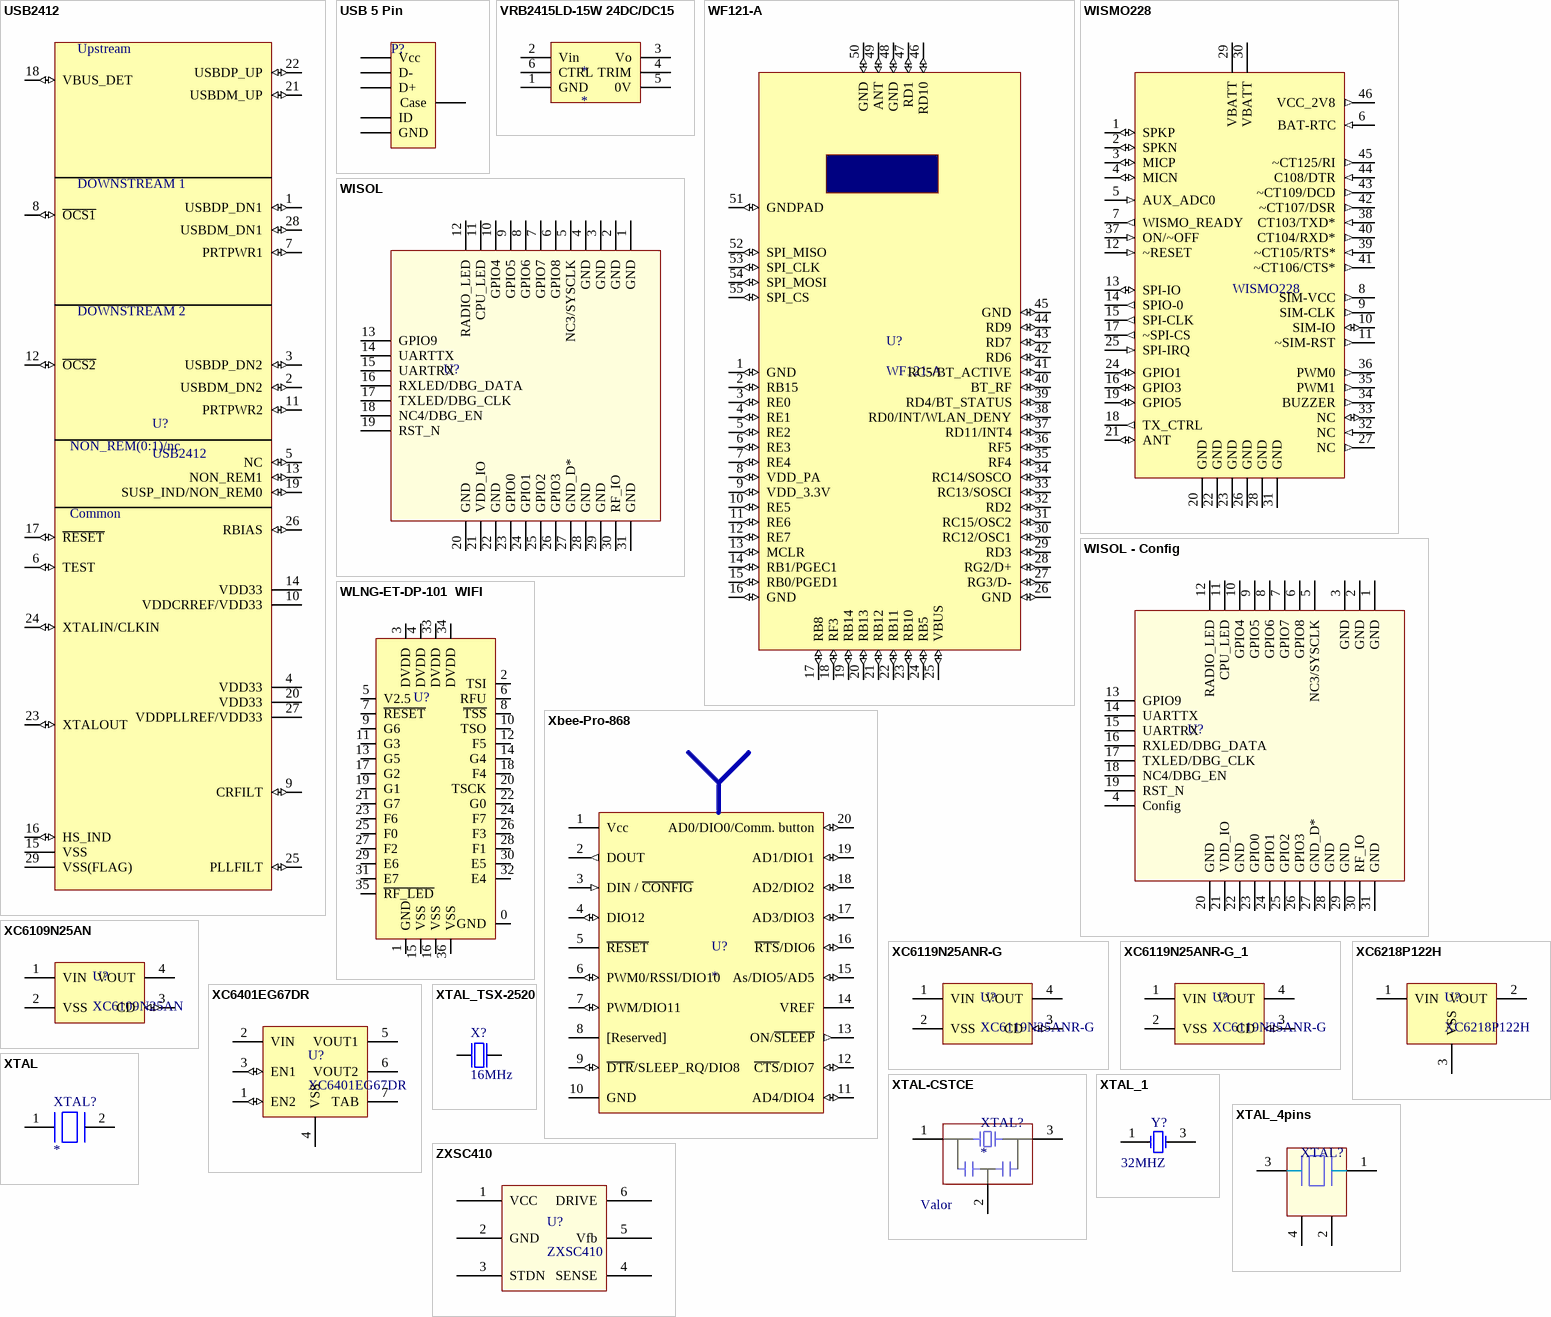
[diagram p21: symbols USB2412 to ZXSC410]

## USB2412
designator U?
CODIGO DIGIKEY: *; CODIGO FARNELL: *; CODIGO MOUSER: *; CODIGO PRODUCTO: *; DISTRIBUIDOR 1: *; DISTRIBUIDOR 2: *
pins: 1 USBDP_DN1 (io), 2 USBDM_DN2 (io), 3 USBDP_DN2 (io), 4 VDD33 (power), 5 NC (io), 6 TEST (io), 7 PRTPWR1 (io), 8 ~{OCS1} (io), 9 CRFILT (io), 10 VDDCRREF/VDD33 (power), 11 PRTPWR2 (io), 12 ~{OCS2} (io), 13 NON_REM1 (io), 14 VDD33 (power), 15 VSS (power), 16 HS_IND (io), 17 ~{RESET} (io), 18 VBUS_DET (io), 19 SUSP_IND/NON_REM0 (io), 20 VDD33 (power), 21 USBDM_UP (io), 22 USBDP_UP (io), 23 XTALOUT (io), 24 XTALIN/CLKIN (io), 25 PLLFILT (io), 26 RBIAS (io), 27 VDDPLLREF/VDD33 (power), 28 USBDM_DN1 (io), 29 VSS(FLAG) (power)
text: Upstream; DOWNSTREAM 1; DOWNSTREAM 2; NON_REM(0:1)/nc; Common

## USB 5 Pin
designator P?  (value not drawn)
USB 5 Pin; CODIGO DIGIKEY: *; CODIGO FARNELL: *; CODIGO MOUSER: *; FABRICANTE: *; REF_FABRICANTE: *; DISTRIBUIDOR 1: *; DISTRIBUIDOR 2: *; ComponentLink1URL: *; ComponentLink1Description: *
pins: 0 Case (power), 1 Vcc, 2 D-, 3 D+, 4 ID, 5 GND

## VRB2415LD-15W 24DC/DC15
designator *
pins: 1 GND, 2 Vin, 3 Vo, 4 TRIM, 5 0V, 6 CTRL

## WF121-A
designator U?
CODIGO DIGIKEY: *; CODIGO FARNELL: *; DISTRIBUIDOR: *; PRECIO DIGIKEY: *; CODIGO MOUSER: *; FABRICANTE: *
pins: 1 GND (io), 2 RB15 (io), 3 RE0 (io), 4 RE1 (io), 5 RE2 (io), 6 RE3 (io), 7 RE4 (io), 8 VDD_PA (io), 9 VDD_3.3V (io), 10 RE5 (io), 11 RE6 (io), 12 RE7 (io), 13 MCLR (io), 14 RB1/PGEC1 (io), 15 RB0/PGED1 (io), 16 GND (io), 17 RB8 (io), 18 RF3 (io), 19 RB14 (io), 20 RB13 (io), 21 RB12 (io), 22 RB11 (io), 23 RB10 (io), 24 RB5 (io), 25 VBUS (io), 26 GND (io), 27 RG3/D- (io), 28 RG2/D+ (io), 29 RD3 (io), 30 RC12/OSC1 (io), 31 RC15/OSC2 (io), 32 RD2 (io), 33 RC13/SOSCI (io), 34 RC14/SOSCO (io), 35 RF4 (io), 36 RF5 (io), 37 RD11/INT4 (io), 38 RD0/INT/WLAN_DENY (io), 39 RD4/BT_STATUS (io), 40 BT_RF (io), 41 RC5/BT_ACTIVE (io), 42 RD6 (io), 43 RD7 (io), 44 RD9 (io), 45 GND (io), 46 RD10 (io), 47 RD1 (io), 48 GND (io), 49 ANT (io), 50 GND (io), 51 GNDPAD (io), 52 SPI_MISO (io), 53 SPI_CLK (io), 54 SPI_MOSI (io), 55 SPI_CS (io)

## WISMO228
designator U?
FABRICANTE: SIERRA WIRELESS; CODIGO FARNELL: *; PRECIO FARNELL: *
pins: 1 SPKP (io), 2 SPKN (io), 3 MICP (io), 4 MICN (io), 5 AUX_ADC0 (in), 6 BAT-RTC (in), 7 WISMO_READY (out), 8 SIM-VCC (out), 9 SIM-CLK (out), 10 SIM-IO (io), 11 ~SIM-RST (out), 12 ~RESET (in), 13 SPI-IO (io), 14 SPIO-0 (out), 15 SPI-CLK (out), 16 GPIO3 (io), 17 ~SPI-CS (out), 18 TX_CTRL (out), 19 GPIO5 (io), 20 GND, 21 ANT (io), 22 GND, 23 GND, 24 GPIO1 (io), 25 SPI-IRQ (in), 26 GND, 27 NC (out), 28 GND, 29 VBATT (power), 30 VBATT (power), 31 GND, 32 NC (in), 33 NC (io), 34 BUZZER (out), 35 PWM1 (out), 36 PWM0 (out), 37 ON/~OFF (in), 38 CT103/TXD* (in), 39 ~CT105/RTS* (in), 40 CT104/RXD* (out), 41 ~CT106/CTS* (out), 42 ~CT107/DSR (out), 43 ~CT109/DCD (out), 44 C108/DTR (in), 45 ~CT125/RI (out), 46 VCC_2V8 (out)

## WISOL
designator U?  (value not drawn)
CODIGO FARNELL: *; CODIGO DIGIKEY: *; CODIGO MOUSER: *; FABRICANTE: *; DISTRIBUIDOR 1: *; DISTRIBUIDOR 2: *; REF_FABRICANTE: *
footprint WISOL
pins: 1 GND, 2 GND, 3 GND, 4 GND, 5 NC3/SYSCLK, 6 GPIO8, 7 GPIO7, 8 GPIO6, 9 GPIO5, 10 GPIO4, 11 CPU_LED, 12 RADIO_LED, 13 GPIO9, 14 UARTTX, 15 UARTRX, 16 RXLED/DBG_DATA, 17 TXLED/DBG_CLK, 18 NC4/DBG_EN, 19 RST_N, 20 GND, 21 VDD_IO, 22 GND, 23 GPIO0, 24 GPIO1, 25 GPIO2, 26 GPIO3, 27 GND_D*, 28 GND, 29 GND, 30 RF_IO, 31 GND

## WISOL - Config
designator U?  (value not drawn)
CODIGO FARNELL: *; CODIGO DIGIKEY: *; CODIGO MOUSER: *; FABRICANTE: *; DISTRIBUIDOR 1: *; DISTRIBUIDOR 2: *; REF_FABRICANTE: *
footprint WISOL
pins: 1 GND, 2 GND, 3 GND, 4 Config, 5 NC3/SYSCLK, 6 GPIO8, 7 GPIO7, 8 GPIO6, 9 GPIO5, 10 GPIO4, 11 CPU_LED, 12 RADIO_LED, 13 GPIO9, 14 UARTTX, 15 UARTRX, 16 RXLED/DBG_DATA, 17 TXLED/DBG_CLK, 18 NC4/DBG_EN, 19 RST_N, 20 GND, 21 VDD_IO, 22 GND, 23 GPIO0, 24 GPIO1, 25 GPIO2, 26 GPIO3, 27 GND_D*, 28 GND, 29 GND, 30 RF_IO, 31 GND

## WLNG-ET-DP-101  WIFI
designator U?  (value not drawn)
CODIGO FARNELL: *; PRECIO FARNELL: *
pins: 0 GND (power), 1 GND, 2 TSI, 3 DVDD, 4 DVDD, 5 V2.5, 6 RFU, 7 ~{RESET}, 8 ~{TSS}, 9 G6, 10 TSO, 11 G3, 12 F5, 13 G5, 14 G4, 15 VSS, 16 VSS, 17 G2, 18 F4, 19 G1, 20 TSCK, 21 G7, 22 G0, 23 F6, 24 F7, 25 F0, 26 F3, 27 F2, 28 F1, 29 E6, 30 E5, 31 E7, 32 E4, 33 DVDD, 34 DVDD, 35 ~{RF_LED}, 36 VSS

## Xbee-Pro-868
designator U?
868 MHz Transmitter-reciever; CODIGO DIGIKEY: *; CODIGO MOUSER: *; CODIGO FARNELL: *; DISTRIBUIDOR1: *; DISTRIBUIDOR2: *; FABRICANTE: *; REF_FABRICANTE: *; ComponentLink1Description: *; ComponentLink1URL: *
pins: 1 Vcc (power), 2 DOUT (out), 3 DIN / ~{CONFIG} (in), 4 DIO12 (io), 5 ~{RESET} (oc), 6 PWM0/RSSI/DIO10 (io), 7 PWM/DIO11 (io), 8 [Reserved], 9 ~{DTR}/SLEEP_RQ/DIO8 (io), 10 GND (power), 11 AD4/DIO4 (io), 12 ~{CTS}/DIO7 (io), 13 ON/~{SLEEP} (out), 14 VREF, 15 As/DIO5/AD5 (io), 16 ~{RTS}/DIO6 (io), 17 AD3/DIO3 (io), 18 AD2/DIO2 (io), 19 AD1/DIO1 (io), 20 AD0/DIO0/Comm. button (io)

## XC6109N25AN
designator U?
FABRICANTE: TOREX; CODIGO DIGIKEY: 893-1014-1-ND; PRECIO DIGIKEY 1: 0.48; PRECIO DIGIKEY 100: 0.3614; PRECIO DIGIKEY 500: 0.30112; CODIGO PRODUCTO: XC6109N25AN
footprint SSOT-24
pins: 1 VIN (power), 2 VSS (power), 3 CD (io), 4 VOUT (power)

## XC6119N25ANR-G
designator U?
FABRICANTE: TOREX; CODIGO PRODUCTO: XC6119N25ANR-G
footprint SSOT-24
pins: 1 VIN (power), 2 VSS (power), 3 CD (io), 4 VOUT (power)

## XC6119N25ANR-G_1
designator U?, comment XC6119N25ANR-G
FABRICANTE: TOREX; CODIGO PRODUCTO: XC6119N25ANR-G
footprint SSOT-24
pins: 1 VIN (power), 2 VSS (power), 3 CD (io), 4 VOUT (power)

## XC6218P122H
designator U?
FABRICANTE: TOREX; CODIGO PRODUCTO: XC6218P122H
footprint USP-3 (XC6218P122H)
pins: 1 VIN (power), 2 VOUT (power), 3 VSS (power)

## XC6401EG67DR
designator U?
CODIGO PRODUCTO: XC6401EG67DR-USP-6B; FABRICANTE: TOREX; DISTRIBUIDOR: AVNET
footprint USP-6B (XC6401EG67DR)
pins: 1 EN2 (io), 2 VIN (power), 3 EN1 (io), 4 VSS (power), 5 VOUT1 (power), 6 VOUT2 (power), 7 TAB (power)

## XTAL
designator XTAL?
Crystal Oscillator; CÓDIGO DIGIKEY: *; CÓDIGO FARNELL: *; CÓDIGO MOUSER: *; FABRICANTE: *; REF_FABRICANTE: *; DISTRIBUIDOR 1: *; Valor: *; DISTRIBUIDOR 2: *
pins: 1, 2

## XTAL-CSTCE
designator XTAL?
Cristal oscillator; CODIGO_DIGIKEY: *; CODIGO_MOUSER: *; DISTRIBUIDOR1: *; DISTRIBUIDOR2: *; VALOR: Valor
pins: 1, 2, 3

## XTAL_1
designator Y?, comment value 32MHZ  (hidden comment: ABM3B-32.000MHZ-B2-T.)
Crystal Oscillator; Manufacturer: ABRACON; Published: 8-Jun-2000; Revision: July-2002: Re-released for DXP Platform.; Publisher: Altium Limited; Class I: Oscillator; Class II: Crystal Oscillator; CODIGO FARNELL: 7941420; FABRICANTE: ABRACON; CODIGO DIGIKEY: 535-9131-1-ND**
footprint RELOJ 2"
simulation model XTAL (Spice Subcircuit)
footprint CRYSTALS SMD (RELOJ SMD)
footprint ACT321AK (RELOJ SMD 32 MHZ DE ACT)
footprint RSX-3 crystal (crystal de 32mhz de RAKON modelo RSX-3)
footprint ACT325SMX 4 (crystal 32mhz de 3.2mm x 2.5mm)
footprint ABM3B (CRISTAL ABRACON 30MHZ)
pins: 1 OSC1, 3 OSC2

## XTAL_4pins
designator XTAL?  (value not drawn)
Crystal Oscillator; CODIGO DIGIKEY: *; CODIGO MOUSER: *; CODIGO FARNELL: *; REF_FABRICANTE: *; FABRICANTE: *; DISTRIBUIDOR 1: *; DISTRIBUIDOR 2: *; ComponentLink1Description: *; ComponentLink1URL: *; Valor: *
pins: 1, 2, 3, 4

## XTAL_TSX-2520
designator X?, comment 16MHz
XTAL SMD 2520, 16MHz, 8pF, ±15ppm; Part Number: NX2520SA-16MHZ-STD-CSW-5; Manufacturer: NDK; Note: XTAL SMD 16.000MHz; Artikkelnr Noca: 22019192; Manufacturer Part Number: NX2520SA-16MHZ-STD-CSW-5; Datasheet: http://www.ndk.com/images/products/catalog/c_NX2520SA-STD-CSW-5_e.pdf; Footprint: BT-XTAL_2520; LatestRevisionDate: 2012-06-15; Pin Count: 4; Publisher: Nordic Semiconductor; Published: 2012-06-15; Value: 16MHz; Supplier: Digi-Key; Supplier part number: 644-1169-1-ND; 2nd source Supplier: *; 2nd source part number: *
pins: 1 inp, 2 GND hidden to GND, 3 out, 4 GND hidden to GND

## ZXSC410
designator U?
pins: 1 VCC, 2 GND, 3 STDN, 4 SENSE, 5 Vfb, 6 DRIVE